# EAGLE library part MC15-G (library con-phoenix-381)
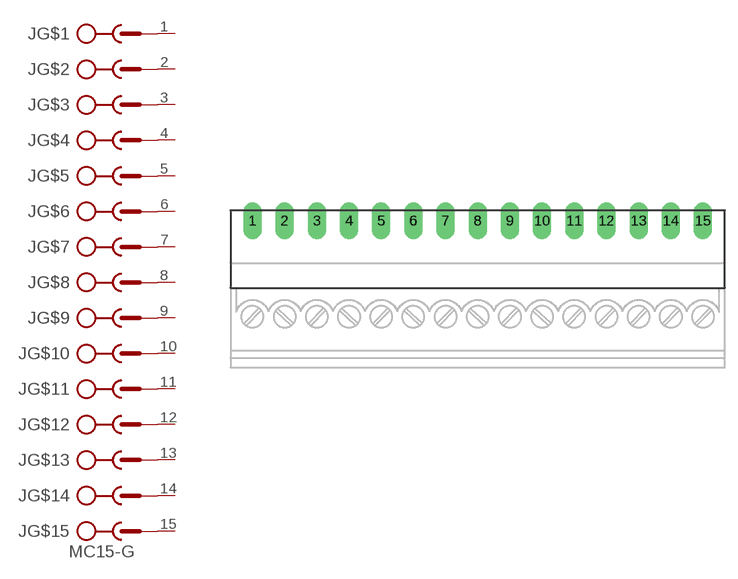
[diagram p44: symbol with the pads of MC15-G; footprint MC15-G]

Designator prefix J; gates G$1=SK G$2=SK G$3=SK G$4=SK G$5=SK G$6=SK G$7=SK G$8=SK G$9=SK G$10=SK G$11=SK G$12=SK G$13=SK G$14=SK G$15=SK+V

## MC15-G  [MC15-G]
1  G$1:SK  pas
2  G$2:SK  pas
3  G$3:SK  pas
4  G$4:SK  pas
5  G$5:SK  pas
6  G$6:SK  pas
7  G$7:SK  pas
8  G$8:SK  pas
9  G$9:SK  pas
10  G$10:SK  pas
11  G$11:SK  pas
12  G$12:SK  pas
13  G$13:SK  pas
14  G$14:SK  pas
15  G$15:SK  pas

## Footprint MC15-G (pad centres in mm)
drill 1.27 pad 2.184 long: 1 -26.67,0; 2 -22.86,0; 3 -19.05,0; 4 -15.24,0; 5 -11.43,0; 6 -7.62,0; 7 -3.81,0; 8 0,0; 9 3.81,0; 10 7.62,0; 11 11.43,0; 12 15.24,0; 13 19.05,0; 14 22.86,0; 15 26.67,0